# EAGLE library part DF12_F_20 (library KW2)
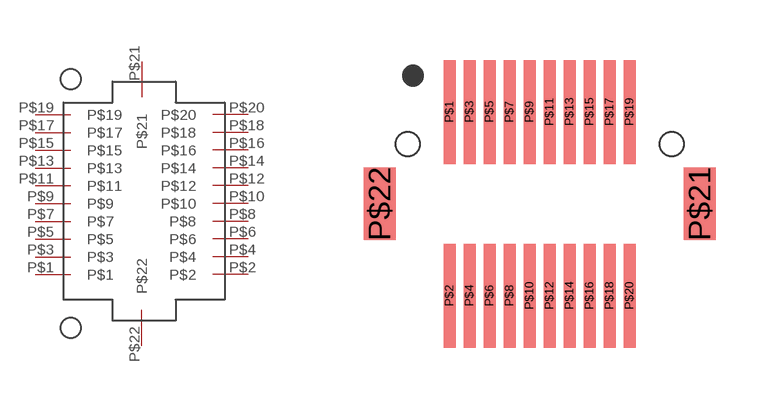
[diagram p5: symbol with the pads of DF12_F_20; footprint DF12_F_20]

Designator prefix -

## DF12_F_20  [DF12_F_20]
P$1  P$1
P$2  P$2
P$3  P$3
P$4  P$4
P$5  P$5
P$6  P$6
P$7  P$7
P$8  P$8
P$9  P$9
P$10  P$10
P$11  P$11
P$12  P$12
P$13  P$13
P$14  P$14
P$15  P$15
P$16  P$16
P$17  P$17
P$18  P$18
P$19  P$19
P$20  P$20
P$21  P$21
P$22  P$22

## Footprint DF12_F_20 (pad centres in mm)
smd 0.3 x 2.6: P$1 -1.75,2.3; P$2 -1.75,-2.3; P$3 -1.25,2.3; P$4 -1.25,-2.3; P$5 -0.75,2.3; P$6 -0.75,-2.3; P$7 -0.25,2.3; P$8 -0.25,-2.3; P$9 0.25,2.3; P$10 0.25,-2.3; P$11 0.75,2.3; P$12 0.75,-2.3; P$13 1.25,2.3; P$14 1.25,-2.3; P$15 1.75,2.3; P$16 1.75,-2.3; P$17 2.25,2.3; P$18 2.25,-2.3; P$19 2.75,2.3; P$20 2.75,-2.3
smd 0.8 x 1.8: P$21 4.5,0; P$22 -3.5,0
hole 0.6 at -2.8,1.5
hole 0.6 at 3.8,1.5